# Altium footprint library HEATSINK.PcbLib: 1 footprints
Each footprint in its own frame and in the unit in brackets; x right, y up, seen from the top. Pads: shape width x height; smd on the part's side, far side on the other; paste and mask are expansions set on the pad; w line width, h text height; cw(c..) or ccw(c..) is an arc to the next point about the centre after c.

## HEATSINK_1000KWT_VARIANT_1 [mm]
3D body "Heat sink N? 50.STEP": height -51.5, standoff -76.5, extent 0,-69.5 50,-24.5
3D body "Heat sink N? 50.STEP": height -51.5, standoff -76.5, extent 0,-45 50,0
3D body "Heat sink N? 50.STEP": height -51.5, standoff -76.5, extent 0,-154.5 50,-109.5
3D body "Heat sink N? 50.STEP": height -51.5, standoff -76.5, extent 0,-109.5 50,-64.5
3D body "Heat sink N? 50.STEP": height -51.5, standoff -76.5, extent 50,-69.5 100,-24.5
3D body "Heat sink N? 50.STEP": height -51.5, standoff -76.5, extent 50,-109.5 100,-64.5
3D body "Heat sink N? 50.STEP": height -51.5, standoff -76.5, extent 50,-45 100,0
3D body "Heat sink N? 50.STEP": height -51.5, standoff -76.5, extent 50,-154.5 100,-109.5
3D body "Heat sink N? 50.STEP": height -51.5, standoff -76.5, extent 100,-69.5 150,-24.5
3D body "Heat sink N? 50.STEP": height -51.5, standoff -76.5, extent 100,-45 150,0
3D body "Heat sink N? 50.STEP": height -51.5, standoff -76.5, extent 100,-109.5 150,-64.5
3D body "Heat sink N? 50.STEP": height -51.5, standoff -76.5, extent 100,-154.5 150,-109.5
3D body "Heat sink N? 50.STEP": height -51.5, standoff -76.5, extent 150,-154.5 200,-109.5
3D body "Heat sink N? 50.STEP": height -51.5, standoff -76.5, extent 200,-154.5 250,-109.5
3D body "Heat sink N? 50.STEP": height -51.5, standoff -76.5, extent 250,-154.5 300,-109.5
3D body "Heat sink N? 50.STEP": height -51.5, standoff -76.5, extent 150,-109.5 200,-64.5
3D body "Heat sink N? 50.STEP": height -51.5, standoff -76.5, extent 200,-109.5 250,-64.5
3D body "Heat sink N? 50.STEP": height -51.5, standoff -76.5, extent 250,-109.5 300,-64.5
3D body "Heat sink N? 50.STEP": height -51.5, standoff -76.5, extent 150,-69.5 200,-24.5
3D body "Heat sink N? 50.STEP": height -51.5, standoff -76.5, extent 200,-69.5 250,-24.5
3D body "Heat sink N? 50.STEP": height -51.5, standoff -76.5, extent 250,-69.5 300,-24.5
3D body "Heat sink N? 50.STEP": height -51.5, standoff -76.5, extent 150,-45 200,0
3D body "Heat sink N? 50.STEP": height -51.5, standoff -76.5, extent 200,-45 250,0
3D body "Heat sink N? 50.STEP": height -51.5, standoff -76.5, extent 250,-45 300,0
3D body "Heat sink N? 50.STEP": height -6.5, standoff -51.5, extent 0,-25 50,0
3D body "Heat sink N? 50.STEP": height -6.5, standoff -51.5, extent 0,-154.5 50,-129.5
3D body "Heat sink N? 50.STEP": height -6.5, standoff -51.5, extent 50,-154.5 100,-129.5
3D body "Heat sink N? 50.STEP": height -6.5, standoff -51.5, extent 50,-25 100,0
3D body "Heat sink N? 50.STEP": height -6.5, standoff -51.5, extent 100,-154.5 150,-129.5
3D body "Heat sink N? 50.STEP": height -6.5, standoff -51.5, extent 150,-154.5 200,-129.5
3D body "Heat sink N? 50.STEP": height -6.5, standoff -51.5, extent 200,-154.5 250,-129.5
3D body "Heat sink N? 50.STEP": height -6.5, standoff -51.5, extent 250,-154.5 300,-129.5
3D body "Heat sink N? 50.STEP": height -6.5, standoff -51.5, extent 100,-25 150,0
3D body "Heat sink N? 50.STEP": height -6.5, standoff -51.5, extent 150,-25 200,0
3D body "Heat sink N? 50.STEP": height -6.5, standoff -51.5, extent 200,-25 250,0
3D body "Heat sink N? 50.STEP": height -6.5, standoff -51.5, extent 250,-25 300,0